# Altium schematic symbol library kmilo17pet-NSC_Switcher.SchLib: 2226 symbols (part 54 of 59)
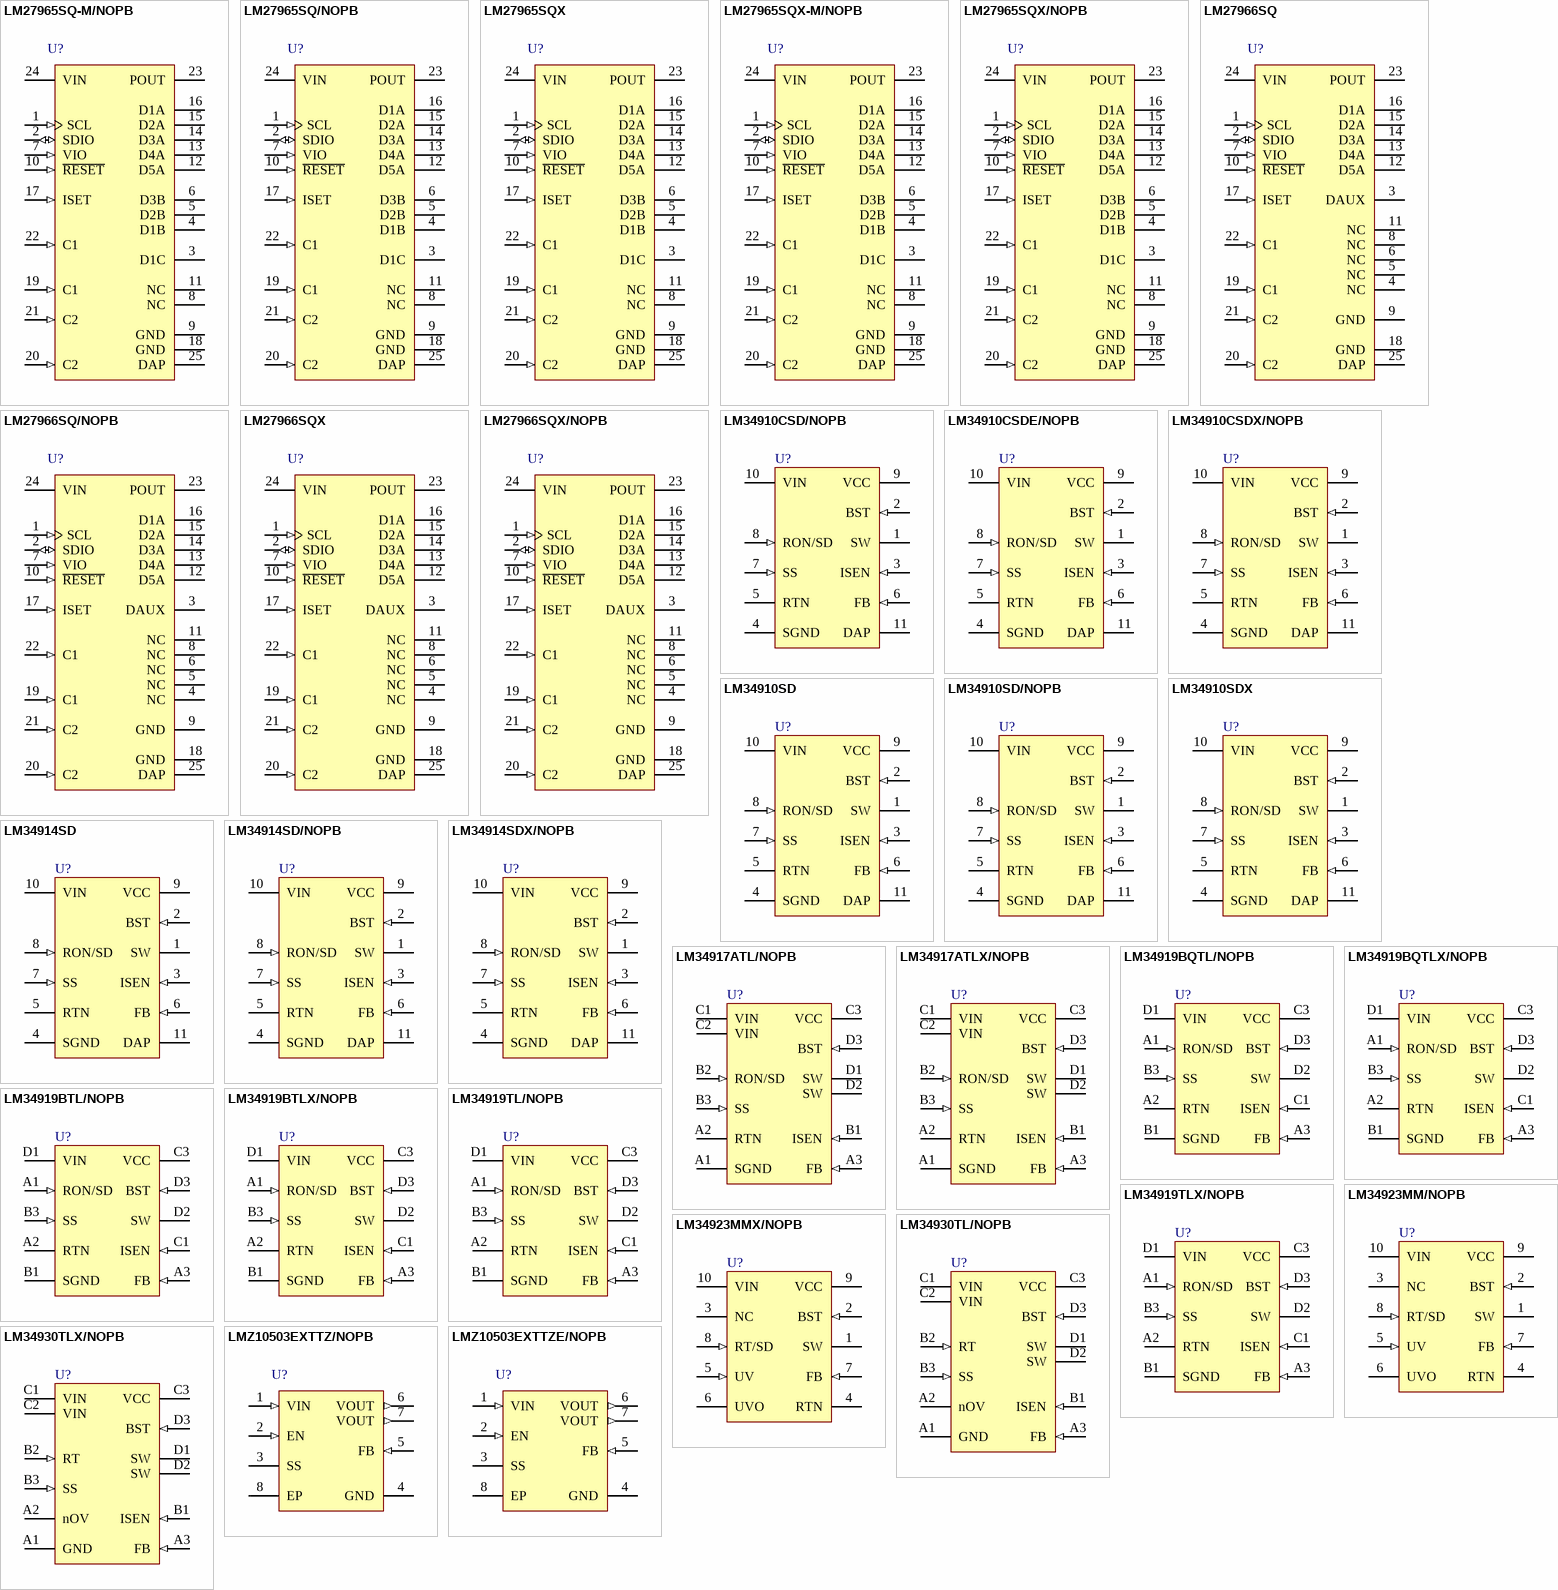
[diagram p122: symbols LM27965SQ-M/NOPB to LMZ10503EXTTZE/NOPB]

## LMZ10503EXTTZ/NOPB
designator U?
3A SIMPLE SWITCHER® Power Module with 5.5V Maximum Input Voltage for Military and Rugged Applications, 7 pin TO-PMOD; PartNumber: LMZ10503EXTTZ/NOPB; Manufacturer: National Semiconductor; PackageTopMarking: NSUZXYTTE#*LMZ10503*EXT; PowerWise: Y; DatasheetVersion: Jul-2010; PackageVersion: revD, Apr-2011; PackageReference: TZA07A; PackageDescription: TO-PMOD-7, 10.16 x 9.85 x 4.57 mm Body, 7 Lead, 1.27mm Pitch, Surface Mount; RoHS: Y; PinCount: 7; CompType: Switcher; High-Reliability: Y; ComponentLink1Description: Manufacturer URL; ComponentLink1URL: http://www.national.com/; ComponentLink2Description: LMZ10503EXT Datasheet; ComponentLink2URL: http://www.national.com/ds/LM/LMZ10503EXT.pdf; ComponentLink3Description: LMZ10503EXT Web Page; ComponentLink3URL: http://www.national.com/pf/LM/LMZ10503EXT.html; ComponentLink4Description: TZA07A Package Page; ComponentLink4URL: http://www.national.com/packaging/folders/tza07a.html
footprint TZA07A_V (D2-PAK, 8-Leads, Body 9.9x10.2mm, Pitch 1.27mm, Lead Span 13.8mm, NSC Recommended)
pins: 1 VIN (in), 2 EN (in), 3 SS, 4 GND (power), 5 FB (in), 6 VOUT (out), 7 VOUT (out), 8 EP

## LMZ10503EXTTZE/NOPB
designator U?
3A SIMPLE SWITCHER® Power Module with 5.5V Maximum Input Voltage for Military and Rugged Applications, 7 pin TO-PMOD; PartNumber: LMZ10503EXTTZE/NOPB; Manufacturer: National Semiconductor; PackageTopMarking: NSUZXYTTE#*LMZ10503*EXT; PowerWise: Y; DatasheetVersion: Jul-2010; PackageVersion: revD, Apr-2011; PackageReference: TZA07A; PackageDescription: TO-PMOD-7, 10.16 x 9.85 x 4.57 mm Body, 7 Lead, 1.27mm Pitch, Surface Mount; RoHS: Y; PinCount: 7; CompType: Switcher; High-Reliability: Y; ComponentLink1Description: Manufacturer URL; ComponentLink1URL: http://www.national.com/; ComponentLink2Description: LMZ10503EXT Datasheet; ComponentLink2URL: http://www.national.com/ds/LM/LMZ10503EXT.pdf; ComponentLink3Description: LMZ10503EXT Web Page; ComponentLink3URL: http://www.national.com/pf/LM/LMZ10503EXT.html; ComponentLink4Description: TZA07A Package Page; ComponentLink4URL: http://www.national.com/packaging/folders/tza07a.html
footprint TZA07A_V (D2-PAK, 8-Leads, Body 9.9x10.2mm, Pitch 1.27mm, Lead Span 13.8mm, NSC Recommended)
pins: 1 VIN (in), 2 EN (in), 3 SS, 4 GND (power), 5 FB (in), 6 VOUT (out), 7 VOUT (out), 8 EP

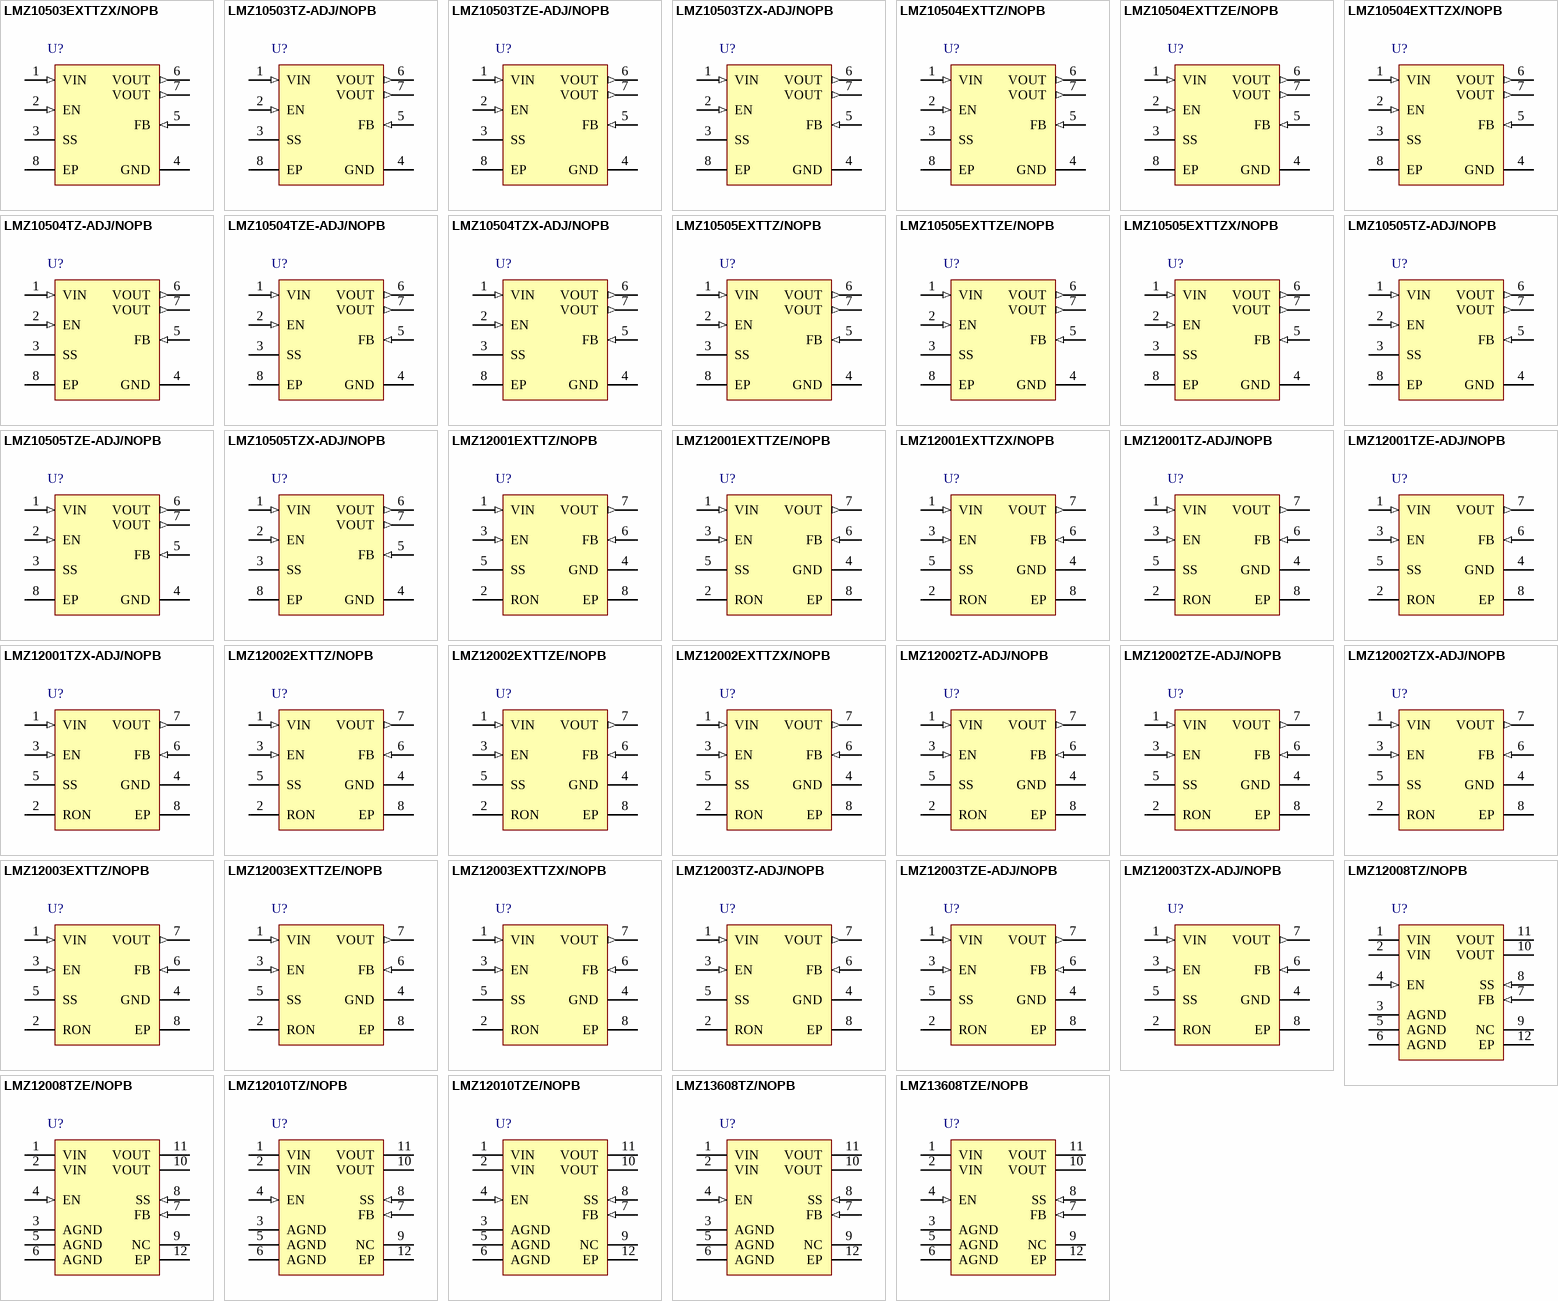
[diagram p62: symbols LMZ10503EXTTZX/NOPB to LMZ13608TZE/NOPB]

## LMZ10503EXTTZX/NOPB
designator U?
3A SIMPLE SWITCHER® Power Module with 5.5V Maximum Input Voltage for Military and Rugged Applications, 7 pin TO-PMOD; PartNumber: LMZ10503EXTTZX/NOPB; Manufacturer: National Semiconductor; PackageTopMarking: NSUZXYTTE#*LMZ10503*EXT; PowerWise: Y; DatasheetVersion: Jul-2010; PackageVersion: revD, Apr-2011; PackageReference: TZA07A; PackageDescription: TO-PMOD-7, 10.16 x 9.85 x 4.57 mm Body, 7 Lead, 1.27mm Pitch, Surface Mount; RoHS: Y; PinCount: 7; CompType: Switcher; High-Reliability: Y; ComponentLink1Description: Manufacturer URL; ComponentLink1URL: http://www.national.com/; ComponentLink2Description: LMZ10503EXT Datasheet; ComponentLink2URL: http://www.national.com/ds/LM/LMZ10503EXT.pdf; ComponentLink3Description: LMZ10503EXT Web Page; ComponentLink3URL: http://www.national.com/pf/LM/LMZ10503EXT.html; ComponentLink4Description: TZA07A Package Page; ComponentLink4URL: http://www.national.com/packaging/folders/tza07a.html
footprint TZA07A_V (D2-PAK, 8-Leads, Body 9.9x10.2mm, Pitch 1.27mm, Lead Span 13.8mm, NSC Recommended)
pins: 1 VIN (in), 2 EN (in), 3 SS, 4 GND (power), 5 FB (in), 6 VOUT (out), 7 VOUT (out), 8 EP

## LMZ10503TZ-ADJ/NOPB
designator U?
3A, SIMPLE SWITCHER® Power Module with 5.5V Maximum Input, 7 pin TO-PMOD; PartNumber: LMZ10503TZ-ADJ/NOPB; Manufacturer: National Semiconductor; PackageTopMarking: NSUZXYTTE#*LMZ10503*TZ-ADJ; PowerWise: Y; DatasheetVersion: Jun-2010; PackageVersion: revD, Apr-2011; PackageReference: TZA07A; PackageDescription: TO-PMOD-7, 10.16 x 9.85 x 4.57 mm Body, 7 Lead, 1.27mm Pitch, Surface Mount; RoHS: Y; PinCount: 7; CompType: Switcher; High-Reliability: Y; ComponentLink1Description: Manufacturer URL; ComponentLink1URL: http://www.national.com/; ComponentLink2Description: LMZ10503 Datasheet; ComponentLink2URL: http://www.national.com/ds/LM/LMZ10503.pdf; ComponentLink3Description: LMZ10503 Web Page; ComponentLink3URL: http://www.national.com/pf/LM/LMZ10503.html; ComponentLink4Description: TZA07A Package Page; ComponentLink4URL: http://www.national.com/packaging/folders/tza07a.html
footprint TZA07A_V (D2-PAK, 8-Leads, Body 9.9x10.2mm, Pitch 1.27mm, Lead Span 13.8mm, NSC Recommended)
pins: 1 VIN (in), 2 EN (in), 3 SS, 4 GND (power), 5 FB (in), 6 VOUT (out), 7 VOUT (out), 8 EP

## LMZ10503TZE-ADJ/NOPB
designator U?
3A, SIMPLE SWITCHER® Power Module with 5.5V Maximum Input, 7 pin TO-PMOD; PartNumber: LMZ10503TZE-ADJ/NOPB; Manufacturer: National Semiconductor; PackageTopMarking: NSUZXYTTE#*LMZ10503*TZ-ADJ; PowerWise: N; High-Reliability: Y; DatasheetVersion: Jun-2010; PackageVersion: revD, Apr-2011; PackageReference: TZA07A; PackageDescription: TO-PMOD-7, 10.16 x 9.85 x 4.57 mm Body, 7 Lead, 1.27mm Pitch, Surface Mount; RoHS: Y; PinCount: 7; CompType: Switcher; ComponentLink1Description: Manufacturer URL; ComponentLink1URL: http://www.national.com/; ComponentLink2Description: LMZ10503 Datasheet; ComponentLink2URL: http://www.national.com/ds/LM/LMZ10503.pdf; ComponentLink3Description: LMZ10503 Web Page; ComponentLink3URL: http://www.national.com/pf/LM/LMZ10503.html; ComponentLink4Description: TZA07A Package Page; ComponentLink4URL: http://www.national.com/packaging/folders/tza07a.html
footprint TZA07A_V (D2-PAK, 8-Leads, Body 9.9x10.2mm, Pitch 1.27mm, Lead Span 13.8mm, NSC Recommended)
pins: 1 VIN (in), 2 EN (in), 3 SS, 4 GND (power), 5 FB (in), 6 VOUT (out), 7 VOUT (out), 8 EP

## LMZ10503TZX-ADJ/NOPB
designator U?
3A, SIMPLE SWITCHER® Power Module with 5.5V Maximum Input, 7 pin TO-PMOD; PartNumber: LMZ10503TZX-ADJ/NOPB; Manufacturer: National Semiconductor; PackageTopMarking: NSUZXYTTE#*LMZ10503*TZ-ADJ; PowerWise: Y; DatasheetVersion: Jun-2010; PackageVersion: revD, Apr-2011; PackageReference: TZA07A; PackageDescription: TO-PMOD-7, 10.16 x 9.85 x 4.57 mm Body, 7 Lead, 1.27mm Pitch, Surface Mount; RoHS: Y; PinCount: 7; CompType: Switcher; High-Reliability: Y; ComponentLink1Description: Manufacturer URL; ComponentLink1URL: http://www.national.com/; ComponentLink2Description: LMZ10503 Datasheet; ComponentLink2URL: http://www.national.com/ds/LM/LMZ10503.pdf; ComponentLink3Description: LMZ10503 Web Page; ComponentLink3URL: http://www.national.com/pf/LM/LMZ10503.html; ComponentLink4Description: TZA07A Package Page; ComponentLink4URL: http://www.national.com/packaging/folders/tza07a.html
footprint TZA07A_V (D2-PAK, 8-Leads, Body 9.9x10.2mm, Pitch 1.27mm, Lead Span 13.8mm, NSC Recommended)
pins: 1 VIN (in), 2 EN (in), 3 SS, 4 GND (power), 5 FB (in), 6 VOUT (out), 7 VOUT (out), 8 EP

## LMZ10504EXTTZ/NOPB
designator U?
4A, SIMPLE SWITCHER® Power Module with 5.5V Maximum Input Voltage for Military and Rugged Applications, 7 pin TO-PMOD; PartNumber: LMZ10504EXTTZ/NOPB; Manufacturer: National Semiconductor; PackageTopMarking: NSUZXYTTE#*LMZ10504*EXT; PowerWise: Y; DatasheetVersion: Jul-2010; PackageVersion: revD, Apr-2011; PackageReference: TZA07A; PackageDescription: TO-PMOD-7, 10.16 x 9.85 x 4.57 mm Body, 7 Lead, 1.27mm Pitch, Surface Mount; RoHS: Y; PinCount: 7; CompType: Switcher; High-Reliability: Y; ComponentLink1Description: Manufacturer URL; ComponentLink1URL: http://www.national.com/; ComponentLink2Description: LMZ10504EXT Datasheet; ComponentLink2URL: http://www.national.com/ds/LM/LMZ10504EXT.pdf; ComponentLink3Description: LMZ10504EXT Web Page; ComponentLink3URL: http://www.national.com/pf/LM/LMZ10504EXT.html; ComponentLink4Description: TZA07A Package Page; ComponentLink4URL: http://www.national.com/packaging/folders/tza07a.html
footprint TZA07A_V (D2-PAK, 8-Leads, Body 9.9x10.2mm, Pitch 1.27mm, Lead Span 13.8mm, NSC Recommended)
pins: 1 VIN (in), 2 EN (in), 3 SS, 4 GND (power), 5 FB (in), 6 VOUT (out), 7 VOUT (out), 8 EP

## LMZ10504EXTTZE/NOPB
designator U?
4A, SIMPLE SWITCHER® Power Module with 5.5V Maximum Input Voltage for Military and Rugged Applications, 7 pin TO-PMOD; PartNumber: LMZ10504EXTTZE/NOPB; Manufacturer: National Semiconductor; PackageTopMarking: NSUZXYTTE#*LMZ10504*EXT; PowerWise: Y; DatasheetVersion: Jul-2010; PackageVersion: revD, Apr-2011; PackageReference: TZA07A; PackageDescription: TO-PMOD-7, 10.16 x 9.85 x 4.57 mm Body, 7 Lead, 1.27mm Pitch, Surface Mount; RoHS: Y; PinCount: 7; CompType: Switcher; High-Reliability: Y; ComponentLink1Description: Manufacturer URL; ComponentLink1URL: http://www.national.com/; ComponentLink2Description: LMZ10504EXT Datasheet; ComponentLink2URL: http://www.national.com/ds/LM/LMZ10504EXT.pdf; ComponentLink3Description: LMZ10504EXT Web Page; ComponentLink3URL: http://www.national.com/pf/LM/LMZ10504EXT.html; ComponentLink4Description: TZA07A Package Page; ComponentLink4URL: http://www.national.com/packaging/folders/tza07a.html
footprint TZA07A_V (D2-PAK, 8-Leads, Body 9.9x10.2mm, Pitch 1.27mm, Lead Span 13.8mm, NSC Recommended)
pins: 1 VIN (in), 2 EN (in), 3 SS, 4 GND (power), 5 FB (in), 6 VOUT (out), 7 VOUT (out), 8 EP

## LMZ10504EXTTZX/NOPB
designator U?
4A, SIMPLE SWITCHER® Power Module with 5.5V Maximum Input Voltage for Military and Rugged Applications, 7 pin TO-PMOD; PartNumber: LMZ10504EXTTZX/NOPB; Manufacturer: National Semiconductor; PackageTopMarking: NSUZXYTTE#*LMZ10504*EXT; PowerWise: Y; DatasheetVersion: Jul-2010; PackageVersion: revD, Apr-2011; PackageReference: TZA07A; PackageDescription: TO-PMOD-7, 10.16 x 9.85 x 4.57 mm Body, 7 Lead, 1.27mm Pitch, Surface Mount; RoHS: Y; PinCount: 7; CompType: Switcher; High-Reliability: Y; ComponentLink1Description: Manufacturer URL; ComponentLink1URL: http://www.national.com/; ComponentLink2Description: LMZ10504EXT Datasheet; ComponentLink2URL: http://www.national.com/ds/LM/LMZ10504EXT.pdf; ComponentLink3Description: LMZ10504EXT Web Page; ComponentLink3URL: http://www.national.com/pf/LM/LMZ10504EXT.html; ComponentLink4Description: TZA07A Package Page; ComponentLink4URL: http://www.national.com/packaging/folders/tza07a.html
footprint TZA07A_V (D2-PAK, 8-Leads, Body 9.9x10.2mm, Pitch 1.27mm, Lead Span 13.8mm, NSC Recommended)
pins: 1 VIN (in), 2 EN (in), 3 SS, 4 GND (power), 5 FB (in), 6 VOUT (out), 7 VOUT (out), 8 EP

## LMZ10504TZ-ADJ/NOPB
designator U?
4A SIMPLE SWITCHER® Power Module with 5.5V Maximum Input Voltage, 7-pin TO-PMOD, Pb-Free; PartNumber: LMZ10504TZ-ADJ/NOPB; Manufacturer: National Semiconductor; PackageTopMarking: NSUZXYTTE#*LMZ10504*TZ-ADJ; PowerWise: Y; DatasheetVersion: Jun-2010; PackageVersion: revD, Apr-2011; PackageReference: TZA07A; PackageDescription: TO-PMOD-7, 10.16 x 9.85 x 4.57 mm Body, 7 Lead, 1.27mm Pitch, Surface Mount; RoHS: Y; PinCount: 8; CompType: Switcher; High-Reliability: Y; ComponentLink1Description: Manufacturer URL; ComponentLink1URL: http://www.national.com/; ComponentLink2Description: LMZ10504 Datasheet; ComponentLink2URL: http://www.national.com/ds/LM/LMZ10504.pdf; ComponentLink3Description: LMZ10504 Web Page; ComponentLink3URL: http://www.national.com/pf/LM/LMZ10504.html; ComponentLink4Description: TZA07A Package Page; ComponentLink4URL: http://www.national.com/packaging/folders/tza07a.html
footprint TZA07A_V (D2-PAK, 8-Leads, Body 9.9x10.2mm, Pitch 1.27mm, Lead Span 13.8mm, NSC Recommended)
pins: 1 VIN (in), 2 EN (in), 3 SS, 4 GND (power), 5 FB (in), 6 VOUT (out), 7 VOUT (out), 8 EP

## LMZ10504TZE-ADJ/NOPB
designator U?
4A SIMPLE SWITCHER® Power Module with 5.5V Maximum Input, 7 pin TO-PMOD, Pb-Free; PartNumber: LMZ10504TZE-ADJ/NOPB; Manufacturer: National Semiconductor; PackageTopMarking: NSUZXYTTE#*LMZ10504*TZ-ADJ; PowerWise: N; High-Reliability: Y; DatasheetVersion: Jun-2010; PackageVersion: revD, Apr-2011; PackageReference: TZA07A; PackageDescription: TO-PMOD-7, 10.16 x 9.85 x 4.57 mm Body, 7 Lead, 1.27mm Pitch, Surface Mount; RoHS: Y; PinCount: 7; CompType: Switcher; ComponentLink1Description: Manufacturer URL; ComponentLink1URL: http://www.national.com/; ComponentLink2Description: LMZ10504 Datasheet; ComponentLink2URL: http://www.national.com/ds/LM/LMZ10504.pdf; ComponentLink3Description: LMZ10504 Web Page; ComponentLink3URL: http://www.national.com/pf/LM/LMZ10504.html; ComponentLink4Description: TZA07A Package Page; ComponentLink4URL: http://www.national.com/packaging/folders/tza07a.html
footprint TZA07A_V (D2-PAK, 8-Leads, Body 9.9x10.2mm, Pitch 1.27mm, Lead Span 13.8mm, NSC Recommended)
pins: 1 VIN (in), 2 EN (in), 3 SS, 4 GND (power), 5 FB (in), 6 VOUT (out), 7 VOUT (out), 8 EP

## LMZ10504TZX-ADJ/NOPB
designator U?
4A SIMPLE SWITCHER® Power Module with 5.5V Maximum Input Voltage, 7-pin TO-PMOD, Pb-Free; PartNumber: LMZ10504TZX-ADJ/NOPB; Manufacturer: National Semiconductor; PackageTopMarking: NSUZXYTTE#*LMZ10504*TZ-ADJ; PowerWise: Y; DatasheetVersion: Jun-2010; PackageVersion: revD, Apr-2011; PackageReference: TZA07A; PackageDescription: TO-PMOD-7, 10.16 x 9.85 x 4.57 mm Body, 7 Lead, 1.27mm Pitch, Surface Mount; RoHS: Y; PinCount: 8; CompType: Switcher; High-Reliability: Y; ComponentLink1Description: Manufacturer URL; ComponentLink1URL: http://www.national.com/; ComponentLink2Description: LMZ10504 Datasheet; ComponentLink2URL: http://www.national.com/ds/LM/LMZ10504.pdf; ComponentLink3Description: LMZ10504 Web Page; ComponentLink3URL: http://www.national.com/pf/LM/LMZ10504.html; ComponentLink4Description: TZA07A Package Page; ComponentLink4URL: http://www.national.com/packaging/folders/tza07a.html
footprint TZA07A_V (D2-PAK, 8-Leads, Body 9.9x10.2mm, Pitch 1.27mm, Lead Span 13.8mm, NSC Recommended)
pins: 1 VIN (in), 2 EN (in), 3 SS, 4 GND (power), 5 FB (in), 6 VOUT (out), 7 VOUT (out), 8 EP

## LMZ10505EXTTZ/NOPB
designator U?
5A SIMPLE SWITCHER® Power Module with 5.5V Maximum Input Voltage for Military and Rugged Applications, 7 pin TO-PMOD; PartNumber: LMZ10505EXTTZ/NOPB; Manufacturer: National Semiconductor; PackageTopMarking: NSUZXYTTE#*LMZ10505*EXT; PowerWise: Y; DatasheetVersion: Jul-2010; PackageVersion: revD, Apr-2011; PackageReference: TZA07A; PackageDescription: TO-PMOD-7, 10.16 x 9.85 x 4.57 mm Body, 7 Lead, 1.27mm Pitch, Surface Mount; RoHS: Y; PinCount: 7; CompType: Switcher; High-Reliability: Y; ComponentLink1Description: Manufacturer URL; ComponentLink1URL: http://www.national.com/; ComponentLink2Description: LMZ10505EXT Datasheet; ComponentLink2URL: http://www.national.com/ds/LM/LMZ10505EXT.pdf; ComponentLink3Description: LMZ10505EXT Web Page; ComponentLink3URL: http://www.national.com/pf/LM/LMZ10505EXT.html; ComponentLink4Description: TZA07A Package Page; ComponentLink4URL: http://www.national.com/packaging/folders/tza07a.html
footprint TZA07A_V (D2-PAK, 8-Leads, Body 9.9x10.2mm, Pitch 1.27mm, Lead Span 13.8mm, NSC Recommended)
pins: 1 VIN (in), 2 EN (in), 3 SS, 4 GND (power), 5 FB (in), 6 VOUT (out), 7 VOUT (out), 8 EP

## LMZ10505EXTTZE/NOPB
designator U?
5A SIMPLE SWITCHER® Power Module with 5.5V Maximum Input Voltage for Military and Rugged Applications, 7 pin TO-PMOD; PartNumber: LMZ10505EXTTZE/NOPB; Manufacturer: National Semiconductor; PackageTopMarking: NSUZXYTTE#*LMZ10505*EXT; PowerWise: Y; DatasheetVersion: Jul-2010; PackageVersion: revD, Apr-2011; PackageReference: TZA07A; PackageDescription: TO-PMOD-7, 10.16 x 9.85 x 4.57 mm Body, 7 Lead, 1.27mm Pitch, Surface Mount; RoHS: Y; PinCount: 7; CompType: Switcher; High-Reliability: Y; ComponentLink1Description: Manufacturer URL; ComponentLink1URL: http://www.national.com/; ComponentLink2Description: LMZ10505EXT Datasheet; ComponentLink2URL: http://www.national.com/ds/LM/LMZ10505EXT.pdf; ComponentLink3Description: LMZ10505EXT Web Page; ComponentLink3URL: http://www.national.com/pf/LM/LMZ10505EXT.html; ComponentLink4Description: TZA07A Package Page; ComponentLink4URL: http://www.national.com/packaging/folders/tza07a.html
footprint TZA07A_V (D2-PAK, 8-Leads, Body 9.9x10.2mm, Pitch 1.27mm, Lead Span 13.8mm, NSC Recommended)
pins: 1 VIN (in), 2 EN (in), 3 SS, 4 GND (power), 5 FB (in), 6 VOUT (out), 7 VOUT (out), 8 EP

## LMZ10505EXTTZX/NOPB
designator U?
5A SIMPLE SWITCHER® Power Module with 5.5V Maximum Input Voltage for Military and Rugged Applications, 7 pin TO-PMOD; PartNumber: LMZ10505EXTTZX/NOPB; Manufacturer: National Semiconductor; PackageTopMarking: NSUZXYTTE#*LMZ10505*EXT; PowerWise: Y; DatasheetVersion: Jul-2010; PackageVersion: revD, Apr-2011; PackageReference: TZA07A; PackageDescription: TO-PMOD-7, 10.16 x 9.85 x 4.57 mm Body, 7 Lead, 1.27mm Pitch, Surface Mount; RoHS: Y; PinCount: 7; CompType: Switcher; High-Reliability: Y; ComponentLink1Description: Manufacturer URL; ComponentLink1URL: http://www.national.com/; ComponentLink2Description: LMZ10505EXT Datasheet; ComponentLink2URL: http://www.national.com/ds/LM/LMZ10505EXT.pdf; ComponentLink3Description: LMZ10505EXT Web Page; ComponentLink3URL: http://www.national.com/pf/LM/LMZ10505EXT.html; ComponentLink4Description: TZA07A Package Page; ComponentLink4URL: http://www.national.com/packaging/folders/tza07a.html
footprint TZA07A_V (D2-PAK, 8-Leads, Body 9.9x10.2mm, Pitch 1.27mm, Lead Span 13.8mm, NSC Recommended)
pins: 1 VIN (in), 2 EN (in), 3 SS, 4 GND (power), 5 FB (in), 6 VOUT (out), 7 VOUT (out), 8 EP

## LMZ10505TZ-ADJ/NOPB
designator U?
5A SIMPLE SWITCHER® Power Module with 5.5V Maximum Input Voltage, 7 pin TO-PMOD; PartNumber: LMZ10505TZ-ADJ/NOPB; Manufacturer: National Semiconductor; PackageTopMarking: NSUZXYTTE#*LMZ10505*TZ-ADJ; PowerWise: Y; DatasheetVersion: Jun-2010; PackageVersion: revD, Apr-2011; PackageReference: TZA07A; PackageDescription: TO-PMOD-7, 10.16 x 9.85 x 4.57 mm Body, 7 Lead, 1.27mm Pitch, Surface Mount; RoHS: Y; PinCount: 7; CompType: Switcher; High-Reliability: Y; ComponentLink1Description: Manufacturer URL; ComponentLink1URL: http://www.national.com/; ComponentLink2Description: LMZ10505 Datasheet; ComponentLink2URL: http://www.national.com/ds/LM/LMZ10505.pdf; ComponentLink3Description: LMZ10505 Web Page; ComponentLink3URL: http://www.national.com/pf/LM/LMZ10505.html; ComponentLink4Description: TZA07A Package Page; ComponentLink4URL: http://www.national.com/packaging/folders/tza07a.html
footprint TZA07A_V (D2-PAK, 8-Leads, Body 9.9x10.2mm, Pitch 1.27mm, Lead Span 13.8mm, NSC Recommended)
pins: 1 VIN (in), 2 EN (in), 3 SS, 4 GND (power), 5 FB (in), 6 VOUT (out), 7 VOUT (out), 8 EP

## LMZ10505TZE-ADJ/NOPB
designator U?
5A SIMPLE SWITCHER® Power Module with 5.5V Maximum Input Voltage, 7 pin TO-PMOD; PartNumber: LMZ10505TZE-ADJ/NOPB; Manufacturer: National Semiconductor; PackageTopMarking: NSUZXYTTE#*LMZ10505*TZ-ADJ; PowerWise: N; High-Reliability: Y; DatasheetVersion: Jun-2010; PackageVersion: revD, Apr-2011; PackageReference: TZA07A; PackageDescription: TO-PMOD-7, 10.16 x 9.85 x 4.57 mm Body, 7 Lead, 1.27mm Pitch, Surface Mount; RoHS: Y; PinCount: 7; CompType: Switcher; ComponentLink1Description: Manufacturer URL; ComponentLink1URL: http://www.national.com/; ComponentLink2Description: LMZ10505 Datasheet; ComponentLink2URL: http://www.national.com/ds/LM/LMZ10505.pdf; ComponentLink3Description: LMZ10505 Web Page; ComponentLink3URL: http://www.national.com/pf/LM/LMZ10505.html; ComponentLink4Description: TZA07A Package Page; ComponentLink4URL: http://www.national.com/packaging/folders/tza07a.html
footprint TZA07A_V (D2-PAK, 8-Leads, Body 9.9x10.2mm, Pitch 1.27mm, Lead Span 13.8mm, NSC Recommended)
pins: 1 VIN (in), 2 EN (in), 3 SS, 4 GND (power), 5 FB (in), 6 VOUT (out), 7 VOUT (out), 8 EP

## LMZ10505TZX-ADJ/NOPB
designator U?
5A SIMPLE SWITCHER® Power Module with 5.5V Maximum Input Voltage, 7 pin TO-PMOD; PartNumber: LMZ10505TZX-ADJ/NOPB; Manufacturer: National Semiconductor; PackageTopMarking: NSUZXYTTE#*LMZ10505*TZ-ADJ; PowerWise: Y; DatasheetVersion: Jun-2010; PackageVersion: revD, Apr-2011; PackageReference: TZA07A; PackageDescription: TO-PMOD-7, 10.16 x 9.85 x 4.57 mm Body, 7 Lead, 1.27mm Pitch, Surface Mount; RoHS: Y; PinCount: 7; CompType: Switcher; High-Reliability: Y; ComponentLink1Description: Manufacturer URL; ComponentLink1URL: http://www.national.com/; ComponentLink2Description: LMZ10505 Datasheet; ComponentLink2URL: http://www.national.com/ds/LM/LMZ10505.pdf; ComponentLink3Description: LMZ10505 Web Page; ComponentLink3URL: http://www.national.com/pf/LM/LMZ10505.html; ComponentLink4Description: TZA07A Package Page; ComponentLink4URL: http://www.national.com/packaging/folders/tza07a.html
footprint TZA07A_V (D2-PAK, 8-Leads, Body 9.9x10.2mm, Pitch 1.27mm, Lead Span 13.8mm, NSC Recommended)
pins: 1 VIN (in), 2 EN (in), 3 SS, 4 GND (power), 5 FB (in), 6 VOUT (out), 7 VOUT (out), 8 EP

## LMZ12001EXTTZ/NOPB
designator U?
1A SIMPLE SWITCHER® Power Module with 20V Maximum Input Voltage for Military and Rugged Applications, 7 pin TO-PMOD; PartNumber: LMZ12001EXTTZ/NOPB; Manufacturer: National Semiconductor; PackageTopMarking: NSUZXYTTE#*LMZ12001*EXT; PowerWise: Y; DatasheetVersion: Aug-2010; PackageVersion: revD, Apr-2011; PackageReference: TZA07A; PackageDescription: TO-PMOD-7, 10.16 x 9.85 x 4.57 mm Body, 7 Lead, 1.27mm Pitch, Surface Mount; RoHS: Y; PinCount: 7; CompType: Switcher; High-Reliability: Y; ComponentLink1Description: Manufacturer URL; ComponentLink1URL: http://www.national.com/; ComponentLink2Description: LMZ12001EXT Datasheet; ComponentLink2URL: http://www.national.com/ds/LM/LMZ12001EXT.pdf; ComponentLink3Description: LMZ12001EXT Web Page; ComponentLink3URL: http://www.national.com/pf/LM/LMZ12001EXT.html; ComponentLink4Description: TZA07A Package Page; ComponentLink4URL: http://www.national.com/packaging/folders/tza07a.html
footprint TZA07A_V (D2-PAK, 8-Leads, Body 9.9x10.2mm, Pitch 1.27mm, Lead Span 13.8mm, NSC Recommended)
pins: 1 VIN (in), 2 RON, 3 EN (in), 4 GND (power), 5 SS, 6 FB (in), 7 VOUT (out), 8 EP

## LMZ12001EXTTZE/NOPB
designator U?
1A SIMPLE SWITCHER® Power Module with 20V Maximum Input Voltage for Military and Rugged Applications, 7 pin TO-PMOD; PartNumber: LMZ12001EXTTZE/NOPB; Manufacturer: National Semiconductor; PackageTopMarking: NSUZXYTTE#*LMZ12001*EXT; PowerWise: Y; DatasheetVersion: Aug-2010; PackageVersion: revD, Apr-2011; PackageReference: TZA07A; PackageDescription: TO-PMOD-7, 10.16 x 9.85 x 4.57 mm Body, 7 Lead, 1.27mm Pitch, Surface Mount; RoHS: Y; PinCount: 7; CompType: Switcher; High-Reliability: Y; ComponentLink1Description: Manufacturer URL; ComponentLink1URL: http://www.national.com/; ComponentLink2Description: LMZ12001EXT Datasheet; ComponentLink2URL: http://www.national.com/ds/LM/LMZ12001EXT.pdf; ComponentLink3Description: LMZ12001EXT Web Page; ComponentLink3URL: http://www.national.com/pf/LM/LMZ12001EXT.html; ComponentLink4Description: TZA07A Package Page; ComponentLink4URL: http://www.national.com/packaging/folders/tza07a.html
footprint TZA07A_V (D2-PAK, 8-Leads, Body 9.9x10.2mm, Pitch 1.27mm, Lead Span 13.8mm, NSC Recommended)
pins: 1 VIN (in), 2 RON, 3 EN (in), 4 GND (power), 5 SS, 6 FB (in), 7 VOUT (out), 8 EP

## LMZ12001EXTTZX/NOPB
designator U?
1A SIMPLE SWITCHER® Power Module with 20V Maximum Input Voltage for Military and Rugged Applications, 7 pin TO-PMOD; PartNumber: LMZ12001EXTTZX/NOPB; Manufacturer: National Semiconductor; PackageTopMarking: NSUZXYTTE#*LMZ12001*EXT; PowerWise: Y; DatasheetVersion: Aug-2010; PackageVersion: revD, Apr-2011; PackageReference: TZA07A; PackageDescription: TO-PMOD-7, 10.16 x 9.85 x 4.57 mm Body, 7 Lead, 1.27mm Pitch, Surface Mount; RoHS: Y; PinCount: 7; CompType: Switcher; High-Reliability: Y; ComponentLink1Description: Manufacturer URL; ComponentLink1URL: http://www.national.com/; ComponentLink2Description: LMZ12001EXT Datasheet; ComponentLink2URL: http://www.national.com/ds/LM/LMZ12001EXT.pdf; ComponentLink3Description: LMZ12001EXT Web Page; ComponentLink3URL: http://www.national.com/pf/LM/LMZ12001EXT.html; ComponentLink4Description: TZA07A Package Page; ComponentLink4URL: http://www.national.com/packaging/folders/tza07a.html
footprint TZA07A_V (D2-PAK, 8-Leads, Body 9.9x10.2mm, Pitch 1.27mm, Lead Span 13.8mm, NSC Recommended)
pins: 1 VIN (in), 2 RON, 3 EN (in), 4 GND (power), 5 SS, 6 FB (in), 7 VOUT (out), 8 EP

## LMZ12001TZ-ADJ/NOPB
designator U?
1A SIMPLE SWITCHER® Power Module with 20V Maximum Input Voltage, 7 pin TO-PMOD; PartNumber: LMZ12001TZ-ADJ/NOPB; Manufacturer: National Semiconductor; PackageTopMarking: NSUZXYTTE#*LMZ12001*TZ-ADJ; PowerWise: Y; DatasheetVersion: Jun-2010; PackageVersion: revD, Apr-2011; PackageReference: TZA07A; PackageDescription: TO-PMOD-7, 10.16 x 9.85 x 4.57 mm Body, 7 Lead, 1.27mm Pitch, Surface Mount; RoHS: Y; PinCount: 7; CompType: Switcher; High-Reliability: Y; ComponentLink1Description: Manufacturer URL; ComponentLink1URL: http://www.national.com/; ComponentLink2Description: LMZ12001 Datasheet; ComponentLink2URL: http://www.national.com/ds/LM/LMZ12001.pdf; ComponentLink3Description: LMZ12001 Web Page; ComponentLink3URL: http://www.national.com/pf/LM/LMZ12001.html; ComponentLink4Description: TZA07A Package Page; ComponentLink4URL: http://www.national.com/packaging/folders/tza07a.html
footprint TZA07A_V (D2-PAK, 8-Leads, Body 9.9x10.2mm, Pitch 1.27mm, Lead Span 13.8mm, NSC Recommended)
pins: 1 VIN (in), 2 RON, 3 EN (in), 4 GND (power), 5 SS, 6 FB (in), 7 VOUT (out), 8 EP

## LMZ12001TZE-ADJ/NOPB
designator U?
1A SIMPLE SWITCHER® Power Module with 20V Maximum Input Voltage, 7 pin TO-PMOD; PartNumber: LMZ12001TZE-ADJ/NOPB; Manufacturer: National Semiconductor; PackageTopMarking: NSUZXYTTE#*LMZ12001*TZ-ADJ; PowerWise: N; High-Reliability: Y; DatasheetVersion: Jun-2010; PackageVersion: revD, Apr-2011; PackageReference: TZA07A; PackageDescription: TO-PMOD-7, 10.16 x 9.85 x 4.57 mm Body, 7 Lead, 1.27mm Pitch, Surface Mount; RoHS: Y; PinCount: 7; CompType: Switcher; ComponentLink1Description: Manufacturer URL; ComponentLink1URL: http://www.national.com/; ComponentLink2Description: LMZ12001 Datasheet; ComponentLink2URL: http://www.national.com/ds/LM/LMZ12001.pdf; ComponentLink3Description: LMZ12001 Web Page; ComponentLink3URL: http://www.national.com/pf/LM/LMZ12001.html; ComponentLink4Description: TZA07A Package Page; ComponentLink4URL: http://www.national.com/packaging/folders/tza07a.html
footprint TZA07A_V (D2-PAK, 8-Leads, Body 9.9x10.2mm, Pitch 1.27mm, Lead Span 13.8mm, NSC Recommended)
pins: 1 VIN (in), 2 RON, 3 EN (in), 4 GND (power), 5 SS, 6 FB (in), 7 VOUT (out), 8 EP

## LMZ12001TZX-ADJ/NOPB
designator U?
1A SIMPLE SWITCHER® Power Module with 20V Maximum Input Voltage, 7 pin TO-PMOD; PartNumber: LMZ12001TZX-ADJ/NOPB; Manufacturer: National Semiconductor; PackageTopMarking: NSUZXYTTE#*LMZ12001*TZ-ADJ; PowerWise: Y; DatasheetVersion: Jun-2010; PackageVersion: revD, Apr-2011; PackageReference: TZA07A; PackageDescription: TO-PMOD-7, 10.16 x 9.85 x 4.57 mm Body, 7 Lead, 1.27mm Pitch, Surface Mount; RoHS: Y; PinCount: 7; CompType: Switcher; High-Reliability: Y; ComponentLink1Description: Manufacturer URL; ComponentLink1URL: http://www.national.com/; ComponentLink2Description: LMZ12001 Datasheet; ComponentLink2URL: http://www.national.com/ds/LM/LMZ12001.pdf; ComponentLink3Description: LMZ12001 Web Page; ComponentLink3URL: http://www.national.com/pf/LM/LMZ12001.html; ComponentLink4Description: TZA07A Package Page; ComponentLink4URL: http://www.national.com/packaging/folders/tza07a.html
footprint TZA07A_V (D2-PAK, 8-Leads, Body 9.9x10.2mm, Pitch 1.27mm, Lead Span 13.8mm, NSC Recommended)
pins: 1 VIN (in), 2 RON, 3 EN (in), 4 GND (power), 5 SS, 6 FB (in), 7 VOUT (out), 8 EP

## LMZ12002EXTTZ/NOPB
designator U?
2A SIMPLE SWITCHER® Power Module with 20V Maximum Input Voltage for Military and Rugged Applications, 7 pin TO-PMOD; PartNumber: LMZ12002EXTTZ/NOPB; Manufacturer: National Semiconductor; PackageTopMarking: NSUZXYTTE#*LMZ12002*EXT; PowerWise: Y; DatasheetVersion: Aug-2010; PackageVersion: revD, Apr-2011; PackageReference: TZA07A; PackageDescription: TO-PMOD-7, 10.16 x 9.85 x 4.57 mm Body, 7 Lead, 1.27mm Pitch, Surface Mount; RoHS: Y; PinCount: 7; CompType: Switcher; High-Reliability: Y; ComponentLink1Description: Manufacturer URL; ComponentLink1URL: http://www.national.com/; ComponentLink2Description: LMZ12002EXT Datasheet; ComponentLink2URL: http://www.national.com/ds/LM/LMZ12002EXT.pdf; ComponentLink3Description: LMZ12002EXT Web Page; ComponentLink3URL: http://www.national.com/pf/LM/LMZ12002EXT.html; ComponentLink4Description: TZA07A Package Page; ComponentLink4URL: http://www.national.com/packaging/folders/tza07a.html
footprint TZA07A_V (D2-PAK, 8-Leads, Body 9.9x10.2mm, Pitch 1.27mm, Lead Span 13.8mm, NSC Recommended)
pins: 1 VIN (in), 2 RON, 3 EN (in), 4 GND (power), 5 SS, 6 FB (in), 7 VOUT (out), 8 EP

## LMZ12002EXTTZE/NOPB
designator U?
2A SIMPLE SWITCHER® Power Module with 20V Maximum Input Voltage for Military and Rugged Applications, 7 pin TO-PMOD; PartNumber: LMZ12002EXTTZE/NOPB; Manufacturer: National Semiconductor; PackageTopMarking: NSUZXYTTE#*LMZ12002*EXT; PowerWise: Y; DatasheetVersion: Aug-2010; PackageVersion: revD, Apr-2011; PackageReference: TZA07A; PackageDescription: TO-PMOD-7, 10.16 x 9.85 x 4.57 mm Body, 7 Lead, 1.27mm Pitch, Surface Mount; RoHS: Y; PinCount: 7; CompType: Switcher; High-Reliability: Y; ComponentLink1Description: Manufacturer URL; ComponentLink1URL: http://www.national.com/; ComponentLink2Description: LMZ12002EXT Datasheet; ComponentLink2URL: http://www.national.com/ds/LM/LMZ12002EXT.pdf; ComponentLink3Description: LMZ12002EXT Web Page; ComponentLink3URL: http://www.national.com/pf/LM/LMZ12002EXT.html; ComponentLink4Description: TZA07A Package Page; ComponentLink4URL: http://www.national.com/packaging/folders/tza07a.html
footprint TZA07A_V (D2-PAK, 8-Leads, Body 9.9x10.2mm, Pitch 1.27mm, Lead Span 13.8mm, NSC Recommended)
pins: 1 VIN (in), 2 RON, 3 EN (in), 4 GND (power), 5 SS, 6 FB (in), 7 VOUT (out), 8 EP

## LMZ12002EXTTZX/NOPB
designator U?
2A SIMPLE SWITCHER® Power Module with 20V Maximum Input Voltage for Military and Rugged Applications, 7 pin TO-PMOD; PartNumber: LMZ12002EXTTZX/NOPB; Manufacturer: National Semiconductor; PackageTopMarking: NSUZXYTTE#*LMZ12002*EXT; PowerWise: Y; DatasheetVersion: Aug-2010; PackageVersion: revD, Apr-2011; PackageReference: TZA07A; PackageDescription: TO-PMOD-7, 10.16 x 9.85 x 4.57 mm Body, 7 Lead, 1.27mm Pitch, Surface Mount; RoHS: Y; PinCount: 7; CompType: Switcher; High-Reliability: Y; ComponentLink1Description: Manufacturer URL; ComponentLink1URL: http://www.national.com/; ComponentLink2Description: LMZ12002EXT Datasheet; ComponentLink2URL: http://www.national.com/ds/LM/LMZ12002EXT.pdf; ComponentLink3Description: LMZ12002EXT Web Page; ComponentLink3URL: http://www.national.com/pf/LM/LMZ12002EXT.html; ComponentLink4Description: TZA07A Package Page; ComponentLink4URL: http://www.national.com/packaging/folders/tza07a.html
footprint TZA07A_V (D2-PAK, 8-Leads, Body 9.9x10.2mm, Pitch 1.27mm, Lead Span 13.8mm, NSC Recommended)
pins: 1 VIN (in), 2 RON, 3 EN (in), 4 GND (power), 5 SS, 6 FB (in), 7 VOUT (out), 8 EP

## LMZ12002TZ-ADJ/NOPB
designator U?
2A SIMPLE SWITCHER® Power Module with 20V Maximum Input Voltage, 7 pin TO-PMOD; PartNumber: LMZ12002TZ-ADJ/NOPB; Manufacturer: National Semiconductor; PackageTopMarking: NSUZXYTTE#*LMZ12002*TZ-ADJ; PowerWise: Y; DatasheetVersion: Jun-2010; PackageVersion: revD, Apr-2011; PackageReference: TZA07A; PackageDescription: TO-PMOD-7, 10.16 x 9.85 x 4.57 mm Body, 7 Lead, 1.27mm Pitch, Surface Mount; RoHS: Y; PinCount: 7; CompType: Switcher; High-Reliability: Y; ComponentLink1Description: Manufacturer URL; ComponentLink1URL: http://www.national.com/; ComponentLink2Description: LMZ12002 Datasheet; ComponentLink2URL: http://www.national.com/ds/LM/LMZ12002.pdf; ComponentLink3Description: LMZ12002 Web Page; ComponentLink3URL: http://www.national.com/pf/LM/LMZ12002.html; ComponentLink4Description: TZA07A Package Page; ComponentLink4URL: http://www.national.com/packaging/folders/tza07a.html
footprint TZA07A_V (D2-PAK, 8-Leads, Body 9.9x10.2mm, Pitch 1.27mm, Lead Span 13.8mm, NSC Recommended)
pins: 1 VIN (in), 2 RON, 3 EN (in), 4 GND (power), 5 SS, 6 FB (in), 7 VOUT (out), 8 EP

## LMZ12002TZE-ADJ/NOPB
designator U?
2A SIMPLE SWITCHER® Power Module with 20V Maximum Input Voltage, 7 pin TO-PMOD; PartNumber: LMZ12002TZE-ADJ/NOPB; Manufacturer: National Semiconductor; PackageTopMarking: NSUZXYTTE#*LMZ12002*TZ-ADJ; PowerWise: N; High-Reliability: Y; DatasheetVersion: Jun-2010; PackageVersion: revD, Apr-2011; PackageReference: TZA07A; PackageDescription: TO-PMOD-7, 10.16 x 9.85 x 4.57 mm Body, 7 Lead, 1.27mm Pitch, Surface Mount; RoHS: Y; PinCount: 7; CompType: Switcher; ComponentLink1Description: Manufacturer URL; ComponentLink1URL: http://www.national.com/; ComponentLink2Description: LMZ12002 Datasheet; ComponentLink2URL: http://www.national.com/ds/LM/LMZ12002.pdf; ComponentLink3Description: LMZ12002 Web Page; ComponentLink3URL: http://www.national.com/pf/LM/LMZ12002.html; ComponentLink4Description: TZA07A Package Page; ComponentLink4URL: http://www.national.com/packaging/folders/tza07a.html
footprint TZA07A_V (D2-PAK, 8-Leads, Body 9.9x10.2mm, Pitch 1.27mm, Lead Span 13.8mm, NSC Recommended)
pins: 1 VIN (in), 2 RON, 3 EN (in), 4 GND (power), 5 SS, 6 FB (in), 7 VOUT (out), 8 EP

## LMZ12002TZX-ADJ/NOPB
designator U?
2A SIMPLE SWITCHER® Power Module with 20V Maximum Input Voltage, 7 pin TO-PMOD; PartNumber: LMZ12002TZX-ADJ/NOPB; Manufacturer: National Semiconductor; PackageTopMarking: NSUZXYTTE#*LMZ12002*TZ-ADJ; PowerWise: Y; DatasheetVersion: Jun-2010; PackageVersion: revD, Apr-2011; PackageReference: TZA07A; PackageDescription: TO-PMOD-7, 10.16 x 9.85 x 4.57 mm Body, 7 Lead, 1.27mm Pitch, Surface Mount; RoHS: Y; PinCount: 7; CompType: Switcher; High-Reliability: Y; ComponentLink1Description: Manufacturer URL; ComponentLink1URL: http://www.national.com/; ComponentLink2Description: LMZ12002 Datasheet; ComponentLink2URL: http://www.national.com/ds/LM/LMZ12002.pdf; ComponentLink3Description: LMZ12002 Web Page; ComponentLink3URL: http://www.national.com/pf/LM/LMZ12002.html; ComponentLink4Description: TZA07A Package Page; ComponentLink4URL: http://www.national.com/packaging/folders/tza07a.html
footprint TZA07A_V (D2-PAK, 8-Leads, Body 9.9x10.2mm, Pitch 1.27mm, Lead Span 13.8mm, NSC Recommended)
pins: 1 VIN (in), 2 RON, 3 EN (in), 4 GND (power), 5 SS, 6 FB (in), 7 VOUT (out), 8 EP

## LMZ12003EXTTZ/NOPB
designator U?
3A SIMPLE SWITCHER® Power Module with 20V Maximum Input Voltage for Military and Rugged Applications, 7 pin TO-PMOD; PartNumber: LMZ12003EXTTZ/NOPB; Manufacturer: National Semiconductor; PackageTopMarking: NSUZXYTTE#*LMZ12003*EXT; PowerWise: Y; DatasheetVersion: Aug-2010; PackageVersion: revD, Apr-2011; PackageReference: TZA07A; PackageDescription: TO-PMOD-7, 10.16 x 9.85 x 4.57 mm Body, 7 Lead, 1.27mm Pitch, Surface Mount; RoHS: Y; PinCount: 7; CompType: Switcher; High-Reliability: Y; ComponentLink1Description: Manufacturer URL; ComponentLink1URL: http://www.national.com/; ComponentLink2Description: LMZ12003EXT Datasheet; ComponentLink2URL: http://www.national.com/ds/LM/LMZ12003EXT.pdf; ComponentLink3Description: LMZ12003EXT Web Page; ComponentLink3URL: http://www.national.com/pf/LM/LMZ12003EXT.html; ComponentLink4Description: TZA07A Package Page; ComponentLink4URL: http://www.national.com/packaging/folders/tza07a.html
footprint TZA07A_V (D2-PAK, 8-Leads, Body 9.9x10.2mm, Pitch 1.27mm, Lead Span 13.8mm, NSC Recommended)
pins: 1 VIN (in), 2 RON, 3 EN (in), 4 GND (power), 5 SS, 6 FB (in), 7 VOUT (out), 8 EP

## LMZ12003EXTTZE/NOPB
designator U?
3A SIMPLE SWITCHER® Power Module with 20V Maximum Input Voltage for Military and Rugged Applications, 7 pin TO-PMOD; PartNumber: LMZ12003EXTTZE/NOPB; Manufacturer: National Semiconductor; PackageTopMarking: NSUZXYTTE#*LMZ12003*EXT; PowerWise: Y; DatasheetVersion: Aug-2010; PackageVersion: revD, Apr-2011; PackageReference: TZA07A; PackageDescription: TO-PMOD-7, 10.16 x 9.85 x 4.57 mm Body, 7 Lead, 1.27mm Pitch, Surface Mount; RoHS: Y; PinCount: 7; CompType: Switcher; High-Reliability: Y; ComponentLink1Description: Manufacturer URL; ComponentLink1URL: http://www.national.com/; ComponentLink2Description: LMZ12003EXT Datasheet; ComponentLink2URL: http://www.national.com/ds/LM/LMZ12003EXT.pdf; ComponentLink3Description: LMZ12003EXT Web Page; ComponentLink3URL: http://www.national.com/pf/LM/LMZ12003EXT.html; ComponentLink4Description: TZA07A Package Page; ComponentLink4URL: http://www.national.com/packaging/folders/tza07a.html
footprint TZA07A_V (D2-PAK, 8-Leads, Body 9.9x10.2mm, Pitch 1.27mm, Lead Span 13.8mm, NSC Recommended)
pins: 1 VIN (in), 2 RON, 3 EN (in), 4 GND (power), 5 SS, 6 FB (in), 7 VOUT (out), 8 EP

## LMZ12003EXTTZX/NOPB
designator U?
3A SIMPLE SWITCHER® Power Module with 20V Maximum Input Voltage for Military and Rugged Applications, 7 pin TO-PMOD; PartNumber: LMZ12003EXTTZX/NOPB; Manufacturer: National Semiconductor; PackageTopMarking: NSUZXYTTE#*LMZ12003*EXT; PowerWise: Y; DatasheetVersion: Aug-2010; PackageVersion: revD, Apr-2011; PackageReference: TZA07A; PackageDescription: TO-PMOD-7, 10.16 x 9.85 x 4.57 mm Body, 7 Lead, 1.27mm Pitch, Surface Mount; RoHS: Y; PinCount: 7; CompType: Switcher; High-Reliability: Y; ComponentLink1Description: Manufacturer URL; ComponentLink1URL: http://www.national.com/; ComponentLink2Description: LMZ12003EXT Datasheet; ComponentLink2URL: http://www.national.com/ds/LM/LMZ12003EXT.pdf; ComponentLink3Description: LMZ12003EXT Web Page; ComponentLink3URL: http://www.national.com/pf/LM/LMZ12003EXT.html; ComponentLink4Description: TZA07A Package Page; ComponentLink4URL: http://www.national.com/packaging/folders/tza07a.html
footprint TZA07A_V (D2-PAK, 8-Leads, Body 9.9x10.2mm, Pitch 1.27mm, Lead Span 13.8mm, NSC Recommended)
pins: 1 VIN (in), 2 RON, 3 EN (in), 4 GND (power), 5 SS, 6 FB (in), 7 VOUT (out), 8 EP

## LMZ12003TZ-ADJ/NOPB
designator U?
3A SIMPLE SWITCHER® Power Module with 20V Maximum Input Voltage, 7-pin TO-PMOD, Pb-Free; PartNumber: LMZ12003TZ-ADJ/NOPB; Manufacturer: National Semiconductor; PackageTopMarking: NSUZXYTTE#*LMZ12003*TZ-ADJ; PowerWise: Y; DatasheetVersion: Jun-2010; PackageVersion: revD, Apr-2011; PackageReference: TZA07A; PackageDescription: TO-PMOD-7, 10.16 x 9.85 x 4.57 mm Body, 7 Lead, 1.27mm Pitch, Surface Mount; RoHS: Y; PinCount: 8; CompType: Switcher; High-Reliability: Y; ComponentLink1Description: Manufacturer URL; ComponentLink1URL: http://www.national.com/; ComponentLink2Description: LMZ12003 Datasheet; ComponentLink2URL: http://www.national.com/ds/LM/LMZ12003.pdf; ComponentLink3Description: LMZ12003 Web Page; ComponentLink3URL: http://www.national.com/pf/LM/LMZ12003.html; ComponentLink4Description: TZA07A Package Page; ComponentLink4URL: http://www.national.com/packaging/folders/tza07a.html
footprint TZA07A_V (D2-PAK, 8-Leads, Body 9.9x10.2mm, Pitch 1.27mm, Lead Span 13.8mm, NSC Recommended)
pins: 1 VIN (in), 2 RON, 3 EN (in), 4 GND (power), 5 SS, 6 FB (in), 7 VOUT (out), 8 EP

## LMZ12003TZE-ADJ/NOPB
designator U?
3A SIMPLE SWITCHER® Power Module with 20V Maximum Input Voltage, 7 pin TO-PMOD, Pb-Free; PartNumber: LMZ12003TZE-ADJ/NOPB; Manufacturer: National Semiconductor; PackageTopMarking: NSUZXYTTE#*LMZ12003*TZ-ADJ; PowerWise: N; High-Reliability: Y; DatasheetVersion: Jun-2010; PackageVersion: revD, Apr-2011; PackageReference: TZA07A; PackageDescription: TO-PMOD-7, 10.16 x 9.85 x 4.57 mm Body, 7 Lead, 1.27mm Pitch, Surface Mount; RoHS: Y; PinCount: 7; CompType: Switcher; ComponentLink1Description: Manufacturer URL; ComponentLink1URL: http://www.national.com/; ComponentLink2Description: LMZ12003 Datasheet; ComponentLink2URL: http://www.national.com/ds/LM/LMZ12003.pdf; ComponentLink3Description: LMZ12003 Web Page; ComponentLink3URL: http://www.national.com/pf/LM/LMZ12003.html; ComponentLink4Description: TZA07A Package Page; ComponentLink4URL: http://www.national.com/packaging/folders/tza07a.html
footprint TZA07A_V (D2-PAK, 8-Leads, Body 9.9x10.2mm, Pitch 1.27mm, Lead Span 13.8mm, NSC Recommended)
pins: 1 VIN (in), 2 RON, 3 EN (in), 4 GND (power), 5 SS, 6 FB (in), 7 VOUT (out), 8 EP

## LMZ12003TZX-ADJ/NOPB
designator U?
3A SIMPLE SWITCHER® Power Module with 20V Maximum Input Voltage, 7-pin TO-PMOD, Pb-Free; PartNumber: LMZ12003TZX-ADJ/NOPB; Manufacturer: National Semiconductor; PackageTopMarking: NSUZXYTTE#*LMZ12003*TZ-ADJ; PowerWise: Y; DatasheetVersion: Jun-2010; PackageVersion: revD, Apr-2011; PackageReference: TZA07A; PackageDescription: TO-PMOD-7, 10.16 x 9.85 x 4.57 mm Body, 7 Lead, 1.27mm Pitch, Surface Mount; RoHS: Y; PinCount: 8; CompType: Switcher; High-Reliability: Y; ComponentLink1Description: Manufacturer URL; ComponentLink1URL: http://www.national.com/; ComponentLink2Description: LMZ12003 Datasheet; ComponentLink2URL: http://www.national.com/ds/LM/LMZ12003.pdf; ComponentLink3Description: LMZ12003 Web Page; ComponentLink3URL: http://www.national.com/pf/LM/LMZ12003.html; ComponentLink4Description: TZA07A Package Page; ComponentLink4URL: http://www.national.com/packaging/folders/tza07a.html
footprint TZA07A_V (D2-PAK, 8-Leads, Body 9.9x10.2mm, Pitch 1.27mm, Lead Span 13.8mm, NSC Recommended)
pins: 1 VIN (in), 2 RON, 3 EN (in), 4 GND (power), 5 SS, 6 FB (in), 7 VOUT (out), 8 EP

## LMZ12008TZ/NOPB
designator U?
8A SIMPLE SWITCHER® Power Module with 20V Maximum Input Voltage, 11 pin TO-PMOD, 32 Rail; PartNumber: LMZ12008TZ/NOPB; Manufacturer: National Semiconductor; PackageTopMarking: NSUZXYTTE#*LMZ12008; PowerWise: N; High-Reliability: Y; DatasheetVersion: Apr-2011; PackageVersion: revE, Apr-2011; PackageReference: TZA11A; PackageDescription: TO-PMOD, 15 x 15 x 5.9 mm Body, 11 Lead, 1.27 mm Pitch, Surface Mount; RoHS: Y; PinCount: 11; CompType: Switcher; ComponentLink1Description: Manufacturer URL; ComponentLink1URL: http://www.national.com/; ComponentLink2Description: LMZ12008 Datasheet; ComponentLink2URL: http://www.national.com/ds/LM/LMZ12008.pdf; ComponentLink3Description: LMZ12008 Web Page; ComponentLink3URL: http://www.national.com/pf/LM/LMZ12008.html; ComponentLink4Description: TZA11A Package Page; ComponentLink4URL: http://www.national.com/packaging/folders/tza11a.html
footprint TZA11A_V (TO, 12-Leads, Body 15x15mm, Pitch 1.27mm, Lead Span 17.8mm, NSC Recommended)
pins: 1 VIN (power), 2 VIN (power), 3 AGND (power), 4 EN (in), 5 AGND (power), 6 AGND (power), 7 FB (in), 8 SS (in), 9 NC, 10 VOUT (power), 11 VOUT (power), 12 EP (power)

## LMZ12008TZE/NOPB
designator U?
8A SIMPLE SWITCHER® Power Module with 20V Maximum Input Voltage, 11 pin TO-PMOD, 250 Reel; PartNumber: LMZ12008TZE/NOPB; Manufacturer: National Semiconductor; PackageTopMarking: NSUZXYTTE#*LMZ12008; PowerWise: N; High-Reliability: Y; DatasheetVersion: Apr-2011; PackageVersion: revE, Apr-2011; PackageReference: TZA11A; PackageDescription: TO-PMOD, 15 x 15 x 5.9 mm Body, 11 Lead, 1.27 mm Pitch, Surface Mount; RoHS: Y; PinCount: 11; CompType: Switcher; ComponentLink1Description: Manufacturer URL; ComponentLink1URL: http://www.national.com/; ComponentLink2Description: LMZ12008 Datasheet; ComponentLink2URL: http://www.national.com/ds/LM/LMZ12008.pdf; ComponentLink3Description: LMZ12008 Web Page; ComponentLink3URL: http://www.national.com/pf/LM/LMZ12008.html; ComponentLink4Description: TZA11A Package Page; ComponentLink4URL: http://www.national.com/packaging/folders/tza11a.html
footprint TZA11A_V (TO, 12-Leads, Body 15x15mm, Pitch 1.27mm, Lead Span 17.8mm, NSC Recommended)
pins: 1 VIN (power), 2 VIN (power), 3 AGND (power), 4 EN (in), 5 AGND (power), 6 AGND (power), 7 FB (in), 8 SS (in), 9 NC, 10 VOUT (power), 11 VOUT (power), 12 EP (power)

## LMZ12010TZ/NOPB
designator U?
10A, SIMPLE SWITCHER® Power Module with 20V Maximum Input, 11 pin TO-PMOD, 32 Rail; PartNumber: LMZ12010TZ/NOPB; Manufacturer: National Semiconductor; PackageTopMarking: NSUZXYTTE#*LMZ12010; PowerWise: N; High-Reliability: Y; DatasheetVersion: Apr-2011; PackageVersion: revE, Apr-2011; PackageReference: TZA11A; PackageDescription: TO-PMOD, 15 x 15 x 5.9 mm Body, 11 Lead, 1.27 mm Pitch, Surface Mount; RoHS: Y; PinCount: 11; CompType: Switcher; ComponentLink1Description: Manufacturer URL; ComponentLink1URL: http://www.national.com/; ComponentLink2Description: LMZ12010 Datasheet; ComponentLink2URL: http://www.national.com/ds/LM/LMZ12010.pdf; ComponentLink3Description: LMZ12010 Web Page; ComponentLink3URL: http://www.national.com/pf/LM/LMZ12010.html; ComponentLink4Description: TZA11A Package Page; ComponentLink4URL: http://www.national.com/packaging/folders/tza11a.html
footprint TZA11A_V (TO, 12-Leads, Body 15x15mm, Pitch 1.27mm, Lead Span 17.8mm, NSC Recommended)
pins: 1 VIN (power), 2 VIN (power), 3 AGND (power), 4 EN (in), 5 AGND (power), 6 AGND (power), 7 FB (in), 8 SS (in), 9 NC, 10 VOUT (power), 11 VOUT (power), 12 EP (power)

## LMZ12010TZE/NOPB
designator U?
10A, SIMPLE SWITCHER® Power Module with 20V Maximum Input, 11 pin TO-PMOD, 250 Reel; PartNumber: LMZ12010TZE/NOPB; Manufacturer: National Semiconductor; PackageTopMarking: NSUZXYTTE#*LMZ12010; PowerWise: N; High-Reliability: Y; DatasheetVersion: Apr-2011; PackageVersion: revE, Apr-2011; PackageReference: TZA11A; PackageDescription: TO-PMOD, 15 x 15 x 5.9 mm Body, 11 Lead, 1.27 mm Pitch, Surface Mount; RoHS: Y; PinCount: 11; CompType: Switcher; ComponentLink1Description: Manufacturer URL; ComponentLink1URL: http://www.national.com/; ComponentLink2Description: LMZ12010 Datasheet; ComponentLink2URL: http://www.national.com/ds/LM/LMZ12010.pdf; ComponentLink3Description: LMZ12010 Web Page; ComponentLink3URL: http://www.national.com/pf/LM/LMZ12010.html; ComponentLink4Description: TZA11A Package Page; ComponentLink4URL: http://www.national.com/packaging/folders/tza11a.html
footprint TZA11A_V (TO, 12-Leads, Body 15x15mm, Pitch 1.27mm, Lead Span 17.8mm, NSC Recommended)
pins: 1 VIN (power), 2 VIN (power), 3 AGND (power), 4 EN (in), 5 AGND (power), 6 AGND (power), 7 FB (in), 8 SS (in), 9 NC, 10 VOUT (power), 11 VOUT (power), 12 EP (power)

## LMZ13608TZ/NOPB
designator U?
8A SIMPLE SWITCHER® Power Module with 36V Maximum Input Voltage, 11 pin TO-PMOD, 32 Rail; PartNumber: LMZ13608TZ/NOPB; Manufacturer: National Semiconductor; PackageTopMarking: NSUZXYTTE#*LMZ13608; PowerWise: N; High-Reliability: Y; DatasheetVersion: May-2011; PackageVersion: revE, Apr-2011; PackageReference: TZA11A; PackageDescription: TO-PMOD, 15 x 15 x 5.9 mm Body, 11 Lead, 1.27 mm Pitch, Surface Mount; RoHS: Y; PinCount: 11; CompType: Switcher; ComponentLink1Description: Manufacturer URL; ComponentLink1URL: http://www.national.com/; ComponentLink2Description: LMZ13608 Datasheet; ComponentLink2URL: http://www.national.com/ds/LM/LMZ13608.pdf; ComponentLink3Description: LMZ13608 Web Page; ComponentLink3URL: http://www.national.com/pf/LM/LMZ13608.html; ComponentLink4Description: TZA11A Package Page; ComponentLink4URL: http://www.national.com/packaging/folders/tza11a.html
footprint TZA11A_V (TO, 12-Leads, Body 15x15mm, Pitch 1.27mm, Lead Span 17.8mm, NSC Recommended)
pins: 1 VIN (power), 2 VIN (power), 3 AGND (power), 4 EN (in), 5 AGND (power), 6 AGND (power), 7 FB (in), 8 SS (in), 9 NC, 10 VOUT (power), 11 VOUT (power), 12 EP (power)

## LMZ13608TZE/NOPB
designator U?
8A SIMPLE SWITCHER® Power Module with 36V Maximum Input Voltage, 11 pin TO-PMOD; PartNumber: LMZ13608TZE/NOPB; Manufacturer: National Semiconductor; PackageTopMarking: NSUZXYTTE#*LMZ13608; PowerWise: N; High-Reliability: Y; DatasheetVersion: May-2011; PackageVersion: revE, Apr-2011; PackageReference: TZA11A; PackageDescription: TO-PMOD, 15 x 15 x 5.9 mm Body, 11 Lead, 1.27 mm Pitch, Surface Mount; RoHS: Y; PinCount: 11; CompType: Switcher; ComponentLink1Description: Manufacturer URL; ComponentLink1URL: http://www.national.com/; ComponentLink2Description: LMZ13608 Datasheet; ComponentLink2URL: http://www.national.com/ds/LM/LMZ13608.pdf; ComponentLink3Description: LMZ13608 Web Page; ComponentLink3URL: http://www.national.com/pf/LM/LMZ13608.html; ComponentLink4Description: TZA11A Package Page; ComponentLink4URL: http://www.national.com/packaging/folders/tza11a.html
footprint TZA11A_V (TO, 12-Leads, Body 15x15mm, Pitch 1.27mm, Lead Span 17.8mm, NSC Recommended)
pins: 1 VIN (power), 2 VIN (power), 3 AGND (power), 4 EN (in), 5 AGND (power), 6 AGND (power), 7 FB (in), 8 SS (in), 9 NC, 10 VOUT (power), 11 VOUT (power), 12 EP (power)

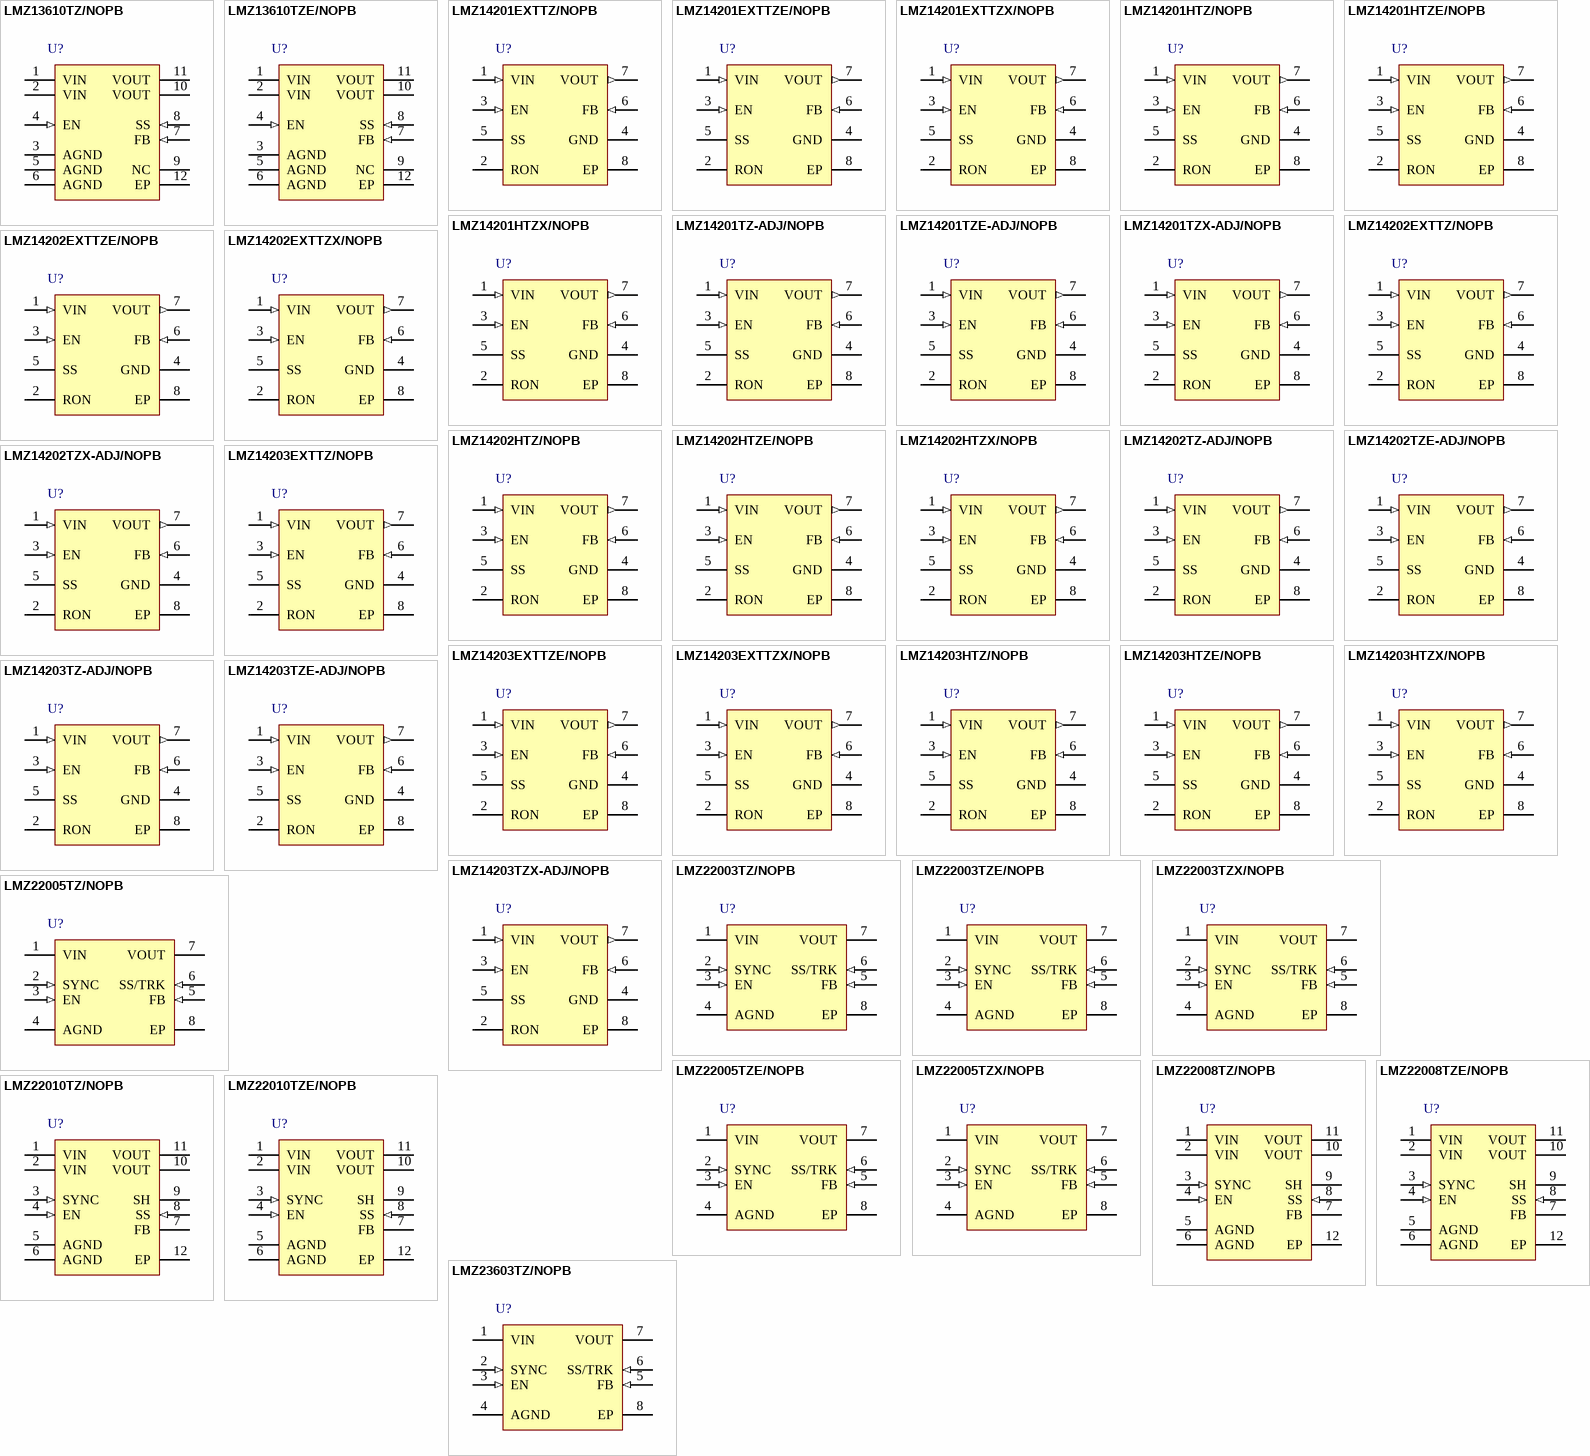
[diagram p63: symbols LMZ13610TZ/NOPB to LMZ23603TZ/NOPB]

## LMZ13610TZ/NOPB
designator U?
10A SIMPLE SWITCHER® Power Module with 36V Maximum Input Voltage, 11 pin TO-PMOD, 32 Rail; PartNumber: LMZ13610TZ/NOPB; Manufacturer: National Semiconductor; PackageTopMarking: NSUZXYTTE#*LMZ13610; PowerWise: N; High-Reliability: Y; DatasheetVersion: May-2011; PackageVersion: revE, Apr-2011; PackageReference: TZA11A; PackageDescription: TO-PMOD, 15 x 15 x 5.9 mm Body, 11 Lead, 1.27 mm Pitch, Surface Mount; RoHS: Y; PinCount: 11; CompType: Switcher; ComponentLink1Description: Manufacturer URL; ComponentLink1URL: http://www.national.com/; ComponentLink2Description: LMZ13610 Datasheet; ComponentLink2URL: http://www.national.com/ds/LM/LMZ13610.pdf; ComponentLink3Description: LMZ13610 Web Page; ComponentLink3URL: http://www.national.com/pf/LM/LMZ13610.html; ComponentLink4Description: TZA11A Package Page; ComponentLink4URL: http://www.national.com/packaging/folders/tza11a.html
footprint TZA11A_V (TO, 12-Leads, Body 15x15mm, Pitch 1.27mm, Lead Span 17.8mm, NSC Recommended)
pins: 1 VIN (power), 2 VIN (power), 3 AGND (power), 4 EN (in), 5 AGND (power), 6 AGND (power), 7 FB (in), 8 SS (in), 9 NC, 10 VOUT (power), 11 VOUT (power), 12 EP (power)